# EAGLE library part BNO055_MODULE (library TimeExpander)
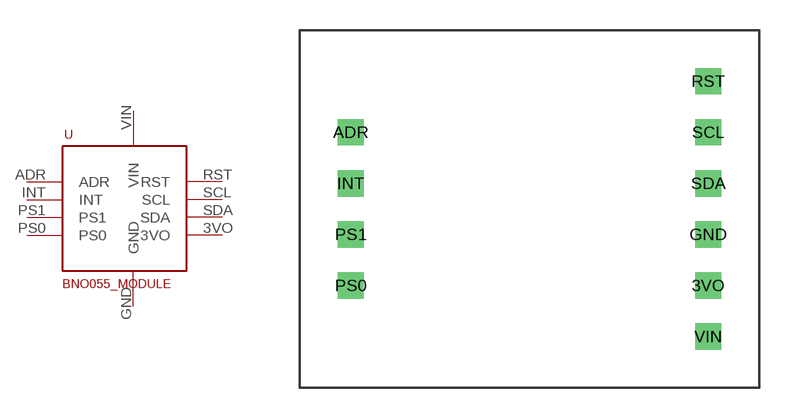
[diagram p11: symbol with the pads of BNO055_MODULE; footprint BNO055_MODULE]

Designator prefix -

## BNO055_MODULE (VALUE: BNO055)  [BNO055_MODULE]
3VO  3VO
ADR  ADR
GND  GND
INT  INT
PS0  PS0
PS1  PS1
RST  RST
SCL  SCL
SDA  SDA
VIN  VIN

## Footprint BNO055_MODULE (pad centres in mm)
drill 0.8 square: 3VO 17.78,2.54; ADR 0,10.16; GND 17.78,5.08; INT 0,7.62; PS0 0,2.54; PS1 0,5.08; RST 17.78,12.7; SCL 17.78,10.16; SDA 17.78,7.62; VIN 17.78,0